# EAGLE library part NEUTRIK_NMJ6HFD2 (library cvogel)
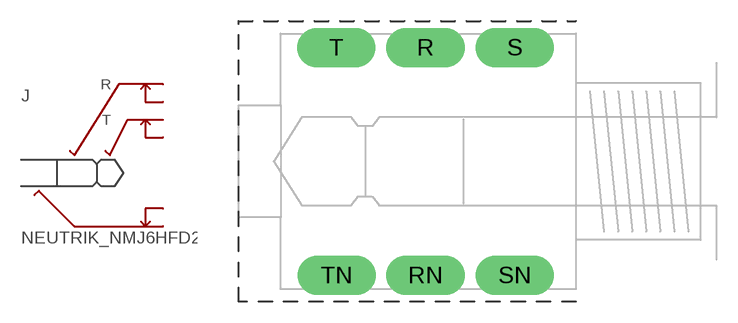
[diagram p3: symbol with the pads of NEUTRIK_NMJ6HFD2; footprint NEUTRIK_NMJ6HFD2]

Designator prefix J

## NEUTRIK_NMJ6HFD2  [NEUTRIK_NMJ6HFD2]
R  R
RN  RN
S  S
SN  SN
T  T
TN  TN

## Footprint NEUTRIK_NMJ6HFD2 (pad centres in mm)
drill 1.5 pad 2.8 long: R -10.7,8.115; RN -10.7,-8.115; S -4.35,8.115; SN -4.35,-8.115; T -17.05,8.115; TN -17.02,-8.115